# EAGLE library part 55763-2070 (library con-molex_MOD)
2.00mm Pitch MicroClasp™ Wire-to-Board Header, Surface Mount, Dual Row, Vertical, 20 Circuits
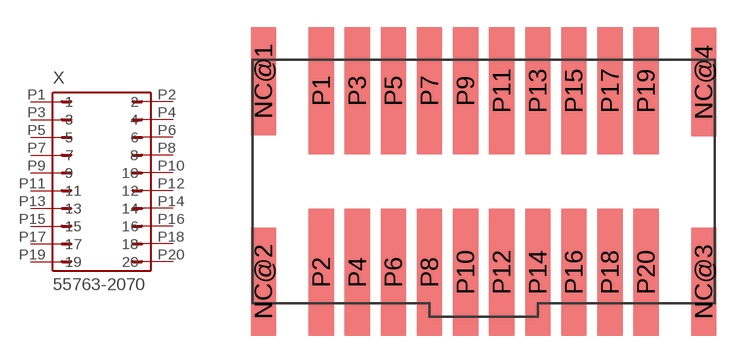
[diagram p229: symbol with the pads of 55763-2070; footprint 55763-2070]

Designator prefix X

## 55763-2070  [55763-2070]
P1  1  pas
P2  2  pas
P3  3  pas
P4  4  pas
P5  5  pas
P6  6  pas
P7  7  pas
P8  8  pas
P9  9  pas
P10  10  pas
P11  11  pas
P12  12  pas
P13  13  pas
P14  14  pas
P15  15  pas
P16  16  pas
P17  17  pas
P18  18  pas
P19  19  pas
P20  20  pas

## Footprint 55763-2070 (pad centres in mm)
smd 1.4 x 6: NC@1 -12.2,5.55; NC@2 -12.2,-5.55; NC@3 12.2,-5.55; NC@4 12.2,5.5
smd 1.4 x 7.05: P1 -9,5.025; P2 -9,-5.025; P3 -7,5.025; P4 -7,-5.025; P5 -5,5.025; P6 -5,-5.025; P7 -3,5.025; P8 -3,-5.025; P9 -1,5.025; P10 -1,-5.025; P11 1,5.025; P12 1,-5.025; P13 3,5.025; P14 3,-5.025; P15 5,5.025; P16 5,-5.025; P17 7,5.025; P18 7,-5.025; P19 9,5.025; P20 9,-5.025